# EAGLE library part QFP160PIN_CONNECTOR (library QFP160PIN_AITENDO)
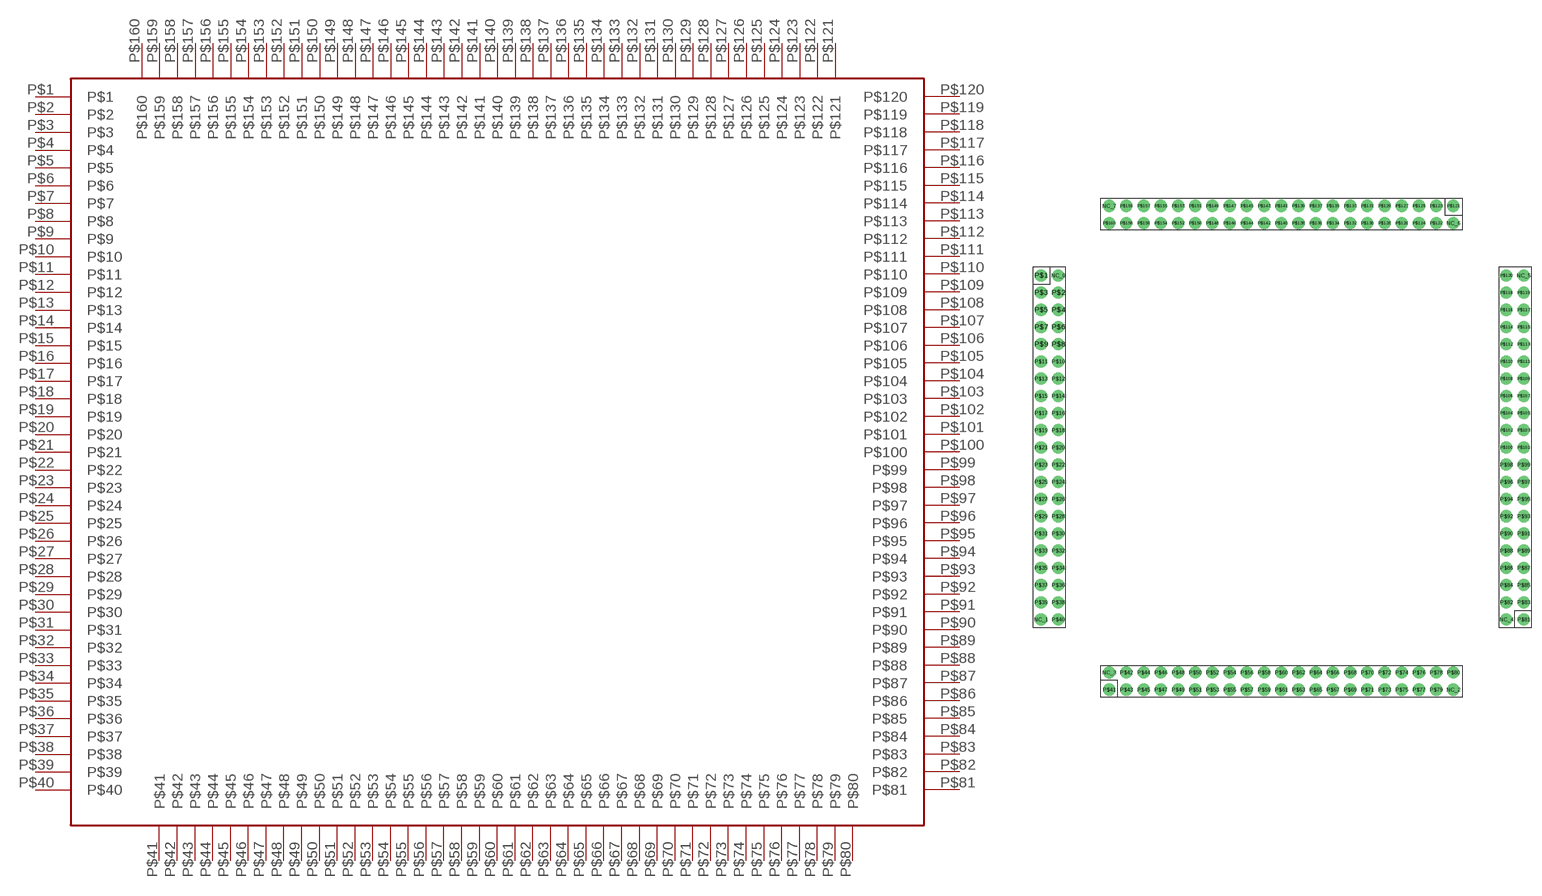
[diagram p1: symbol with the pads of QFP160PIN_CONNECTOR; footprint QFP160PIN_CONNECTOR]

Designator prefix -

## QFP160PIN_CONNECTOR  [QFP160PIN_CONNECTOR]
P$1  P$1
P$2  P$2
P$3  P$3
P$4  P$4
P$5  P$5
P$6  P$6
P$7  P$7
P$8  P$8
P$9  P$9
P$10  P$10
P$11  P$11
P$12  P$12
P$13  P$13
P$14  P$14
P$15  P$15
P$16  P$16
P$17  P$17
P$18  P$18
P$19  P$19
P$20  P$20
P$21  P$21
P$22  P$22
P$23  P$23
P$24  P$24
P$25  P$25
P$26  P$26
P$27  P$27
P$28  P$28
P$29  P$29
P$30  P$30
P$31  P$31
P$32  P$32
P$33  P$33
P$34  P$34
P$35  P$35
P$36  P$36
P$37  P$37
P$38  P$38
P$39  P$39
P$40  P$40
P$41  P$41
P$42  P$42
P$43  P$43
P$44  P$44
P$45  P$45
P$46  P$46
P$47  P$47
P$48  P$48
P$49  P$49
P$50  P$50
P$51  P$51
P$52  P$52
P$53  P$53
P$54  P$54
P$55  P$55
P$56  P$56
P$57  P$57
P$58  P$58
P$59  P$59
P$60  P$60
P$61  P$61
P$62  P$62
P$63  P$63
P$64  P$64
P$65  P$65
P$66  P$66
P$67  P$67
P$68  P$68
P$69  P$69
P$70  P$70
P$71  P$71
P$72  P$72
P$73  P$73
P$74  P$74
P$75  P$75
P$76  P$76
P$77  P$77
P$78  P$78
P$79  P$79
P$80  P$80
P$81  P$81
P$82  P$82
P$83  P$83
P$84  P$84
P$85  P$85
P$86  P$86
P$87  P$87
P$88  P$88
P$89  P$89
P$90  P$90
P$91  P$91
P$92  P$92
P$93  P$93
P$94  P$94
P$95  P$95
P$96  P$96
P$97  P$97
P$98  P$98
P$99  P$99
P$100  P$100
P$101  P$101
P$102  P$102
P$103  P$103
P$104  P$104
P$105  P$105
P$106  P$106
P$107  P$107
P$108  P$108
P$109  P$109
P$110  P$110
P$111  P$111
P$112  P$112
P$113  P$113
P$114  P$114
P$115  P$115
P$116  P$116
P$117  P$117
P$118  P$118
P$119  P$119
P$120  P$120
P$121  P$121
P$122  P$122
P$123  P$123
P$124  P$124
P$125  P$125
P$126  P$126
P$127  P$127
P$128  P$128
P$129  P$129
P$130  P$130
P$131  P$131
P$132  P$132
P$133  P$133
P$134  P$134
P$135  P$135
P$136  P$136
P$137  P$137
P$138  P$138
P$139  P$139
P$140  P$140
P$141  P$141
P$142  P$142
P$143  P$143
P$144  P$144
P$145  P$145
P$146  P$146
P$147  P$147
P$148  P$148
P$149  P$149
P$150  P$150
P$151  P$151
P$152  P$152
P$153  P$153
P$154  P$154
P$155  P$155
P$156  P$156
P$157  P$157
P$158  P$158
P$159  P$159
P$160  P$160

## Footprint QFP160PIN_CONNECTOR (pad centres in mm)
drill 1.067 pad 1.778: NC_0 -31.23,25.4; NC_1 -33.77,-25.4; NC_2 27.1,-35.77; NC_3 -23.7,-33.23; NC_4 34.93,-25.4; NC_5 37.47,25.4; NC_6 27.1,33.13; NC_7 -23.7,35.67; P$1 -33.77,25.4; P$2 -31.23,22.86; P$3 -33.77,22.86; P$4 -31.23,20.32; P$5 -33.77,20.32; P$6 -31.23,17.78; P$7 -33.77,17.78; P$8 -31.23,15.24; P$9 -33.77,15.24; P$10 -31.23,12.7; P$11 -33.77,12.7; P$12 -31.23,10.16; P$13 -33.77,10.16; P$14 -31.23,7.62; P$15 -33.77,7.62; P$16 -31.23,5.08; P$17 -33.77,5.08; P$18 -31.23,2.54; P$19 -33.77,2.54; P$20 -31.23,0; P$21 -33.77,0; P$22 -31.23,-2.54; P$23 -33.77,-2.54; P$24 -31.23,-5.08; P$25 -33.77,-5.08; P$26 -31.23,-7.62; P$27 -33.77,-7.62; P$28 -31.23,-10.16; P$29 -33.77,-10.16; P$30 -31.23,-12.7; P$31 -33.77,-12.7; P$32 -31.23,-15.24; P$33 -33.77,-15.24; P$34 -31.23,-17.78; P$35 -33.77,-17.78; P$36 -31.23,-20.32; P$37 -33.77,-20.32; P$38 -31.23,-22.86; P$39 -33.77,-22.86; P$40 -31.23,-25.4; P$41 -23.7,-35.77; P$42 -21.16,-33.23; P$43 -21.16,-35.77; P$44 -18.62,-33.23; P$45 -18.62,-35.77; P$46 -16.08,-33.23; P$47 -16.08,-35.77; P$48 -13.54,-33.23; P$49 -13.54,-35.77; P$50 -11,-33.23; P$51 -11,-35.77; P$52 -8.46,-33.23; P$53 -8.46,-35.77; P$54 -5.92,-33.23; P$55 -5.92,-35.77; P$56 -3.38,-33.23; P$57 -3.38,-35.77; P$58 -0.84,-33.23; P$59 -0.84,-35.77; P$60 1.7,-33.23; P$61 1.7,-35.77; P$62 4.24,-33.23; P$63 4.24,-35.77; P$64 6.78,-33.23; P$65 6.78,-35.77; P$66 9.32,-33.23; P$67 9.32,-35.77; P$68 11.86,-33.23; P$69 11.86,-35.77; P$70 14.4,-33.23; P$71 14.4,-35.77; P$72 16.94,-33.23; P$73 16.94,-35.77; P$74 19.48,-33.23; P$75 19.48,-35.77; P$76 22.02,-33.23; P$77 22.02,-35.77; P$78 24.56,-33.23; P$79 24.56,-35.77; P$80 27.1,-33.23; P$81 37.47,-25.4; P$82 34.93,-22.86; P$83 37.47,-22.86; P$84 34.93,-20.32; P$85 37.47,-20.32; P$86 34.93,-17.78; P$87 37.47,-17.78; P$88 34.93,-15.24; P$89 37.47,-15.24; P$90 34.93,-12.7; P$91 37.47,-12.7; P$92 34.93,-10.16; P$93 37.47,-10.16; P$94 34.93,-7.62; P$95 37.47,-7.62; P$96 34.93,-5.08; P$97 37.47,-5.08; P$98 34.93,-2.54; P$99 37.47,-2.54; P$100 34.93,0; P$101 37.47,0; P$102 34.93,2.54; P$103 37.47,2.54; P$104 34.93,5.08; P$105 37.47,5.08; P$106 34.93,7.62; P$107 37.47,7.62; P$108 34.93,10.16; P$109 37.47,10.16; P$110 34.93,12.7; P$111 37.47,12.7; P$112 34.93,15.24; P$113 37.47,15.24; P$114 34.93,17.78; P$115 37.47,17.78; P$116 34.93,20.32; P$117 37.47,20.32; P$118 34.93,22.86; P$119 37.47,22.86; P$120 34.93,25.4; P$121 27.1,35.67; P$122 24.56,33.13; P$123 24.56,35.67; P$124 22.02,33.13; P$125 22.02,35.67; P$126 19.48,33.13; P$127 19.48,35.67; P$128 16.94,33.13; P$129 16.94,35.67; P$130 14.4,33.13; P$131 14.4,35.67; P$132 11.86,33.13; P$133 11.86,35.67; P$134 9.32,33.13; P$135 9.32,35.67; P$136 6.78,33.13; P$137 6.78,35.67; P$138 4.24,33.13; P$139 4.24,35.67; P$140 1.7,33.13; P$141 1.7,35.67; P$142 -0.84,33.13; P$143 -0.84,35.67; P$144 -3.38,33.13; P$145 -3.38,35.67; P$146 -5.92,33.13; P$147 -5.92,35.67; P$148 -8.46,33.13; P$149 -8.46,35.67; P$150 -11,33.13; P$151 -11,35.67; P$152 -13.54,33.13; P$153 -13.54,35.67; P$154 -16.08,33.13; P$155 -16.08,35.67; P$156 -18.62,33.13; P$157 -18.62,35.67; P$158 -21.16,33.13; P$159 -21.16,35.67; P$160 -23.7,33.13